# EAGLE library part AS-ITM-00168 (library tinycircuits)
CONN MICRO SIM SMD LEFT EJECT
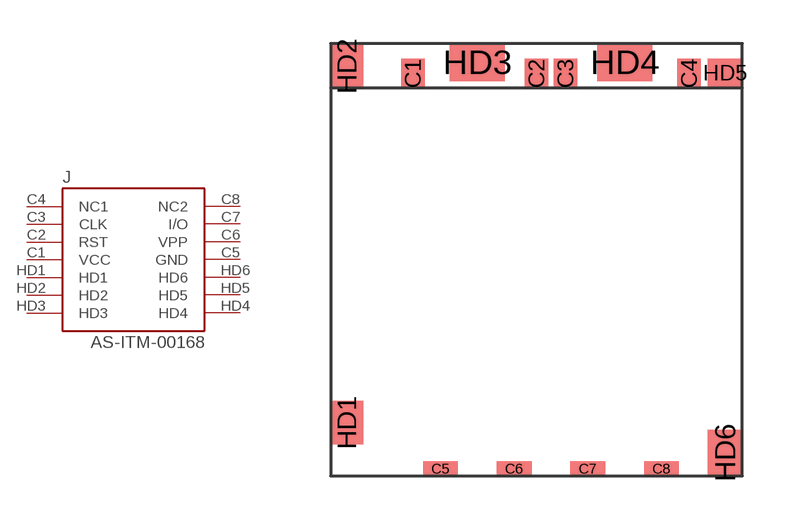
[diagram p74: symbol with the pads of SF50S006V4AR1500; footprint SF50S006V4AR1500]

Designator prefix J

## AS-ITM-00168 (PARTNO: AS-ITM-00168; VALUE: SF50S006V4AR1500)  [SF50S006V4AR1500]
C1  VCC
C2  RST
C3  CLK
C4  NC1
C5  GND
C6  VPP
C7  I/O
C8  NC2
HD1  HD1
HD2  HD2
HD3  HD3
HD4  HD4
HD5  HD5
HD6  HD6

## Footprint SF50S006V4AR1500 (pad centres in mm)
smd 0.8 x 1: C1 -4.26,6.8; C2 0,6.8; C3 1,6.8; C4 5.26,6.8
smd 1.2 x 0.5: C5 -3.31,-6.85; C6 -0.77,-6.85; C7 1.77,-6.85; C8 4.31,-6.85
smd 1.12 x 1.5: HD1 -6.54,-5.25
smd 1.12 x 1.52: HD2 -6.54,7.04
smd 1.9 x 1.3: HD3 -2.04,7.175; HD4 3.04,7.175
smd 1.2 x 1: HD5 6.5,6.8
smd 1.2 x 1.6: HD6 6.5,-6.3